# Altium footprint library ic.PcbLib: 7 footprints
Each footprint in its own frame and in the unit in brackets; x right, y up, seen from the top. Pads: shape width x height; smd on the part's side, far side on the other; paste and mask are expansions set on the pad; w line width, h text height; cw(c..) or ccw(c..) is an arc to the next point about the centre after c.
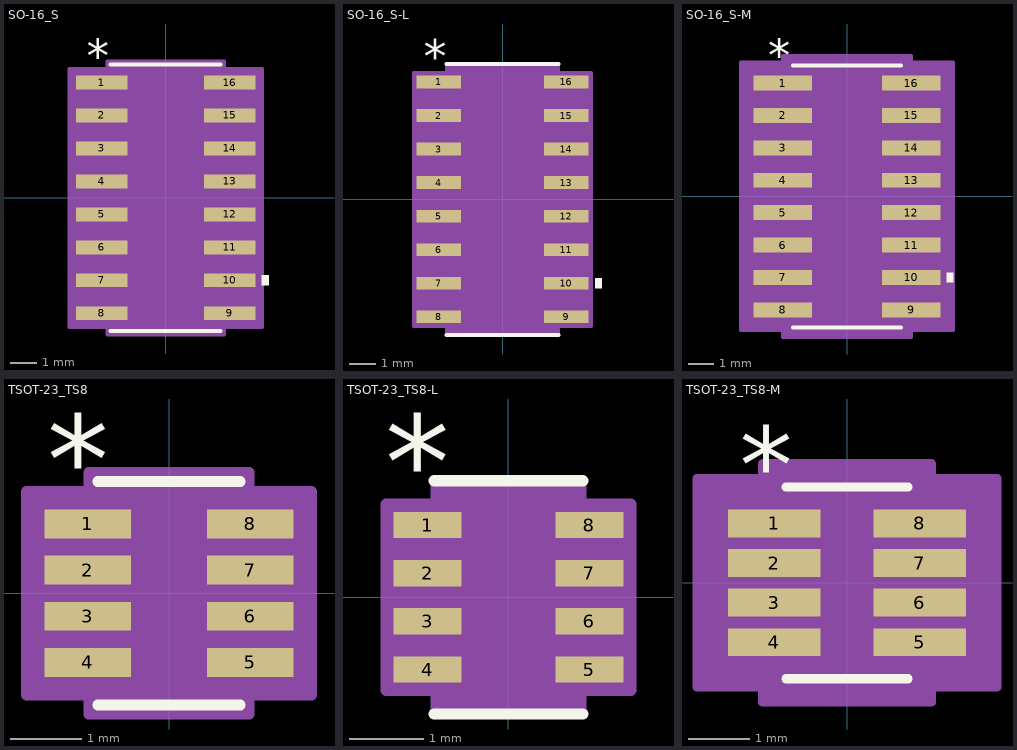
[diagram p0: the footprints below, top view; thin cyan lines are the x and y axes]

## PCBComponent_1 [mil]

## SO-16_S [mil]
pads (16):
  rect 78x21 smd paste+0 mask+0: 1(-97,175) 2(-97,125) 3(-97,75) 4(-97,25) 5(-97,-25) 6(-97,-75) 7(-97,-125) 8(-97,-175) 9(97,-175) 10(97,-125) 11(97,-75) 12(97,-25) 13(97,25) 14(97,75) 15(97,125) 16(97,175)
Top Overlay:
  region: 146,-117.5 156,-117.5 156,-132.5 146,-132.5
  lines w6: -83.5,-202 83.5,-202 ; -83.5,202 83.5,202
  text "*" at -119.5,191 h50
Mechanical 13:
  lines w0: -12,197 ccw(c0,197) 12,197
  lines w1: -122,-184.5 -78.5,-184.5 -78.5,-165.5 -122,-165.5 -122,-184.5 ; -122,-134.5 -78.5,-134.5 -78.5,-115.5 -122,-115.5 -122,-134.5 ; -122,-84.5 -78.5,-84.5 -78.5,-65.5 -122,-65.5 -122,-84.5 ; -122,-34.5 -78.5,-34.5 -78.5,-15.5 -122,-15.5 -122,-34.5 ; -122,15.5 -78.5,15.5 -78.5,34.5 -122,34.5 -122,15.5 ; -122,65.5 -78.5,65.5 -78.5,84.5 -122,84.5 -122,65.5 ; -122,115.5 -78.5,115.5 -78.5,134.5 -122,134.5 -122,115.5 ; -122,165.5 -78.5,165.5 -78.5,184.5 -122,184.5 -122,165.5 ; -78.5,-197 -78.5,197 78.5,197 78.5,-197 -78.5,-197 ; 78.5,-184.5 122,-184.5 122,-165.5 78.5,-165.5 78.5,-184.5 ; 78.5,-134.5 122,-134.5 122,-115.5 78.5,-115.5 78.5,-134.5 ; 78.5,-84.5 122,-84.5 122,-65.5 78.5,-65.5 78.5,-84.5 ; 78.5,-34.5 122,-34.5 122,-15.5 78.5,-15.5 78.5,-34.5 ; 78.5,15.5 122,15.5 122,34.5 78.5,34.5 78.5,15.5 ; 78.5,65.5 122,65.5 122,84.5 78.5,84.5 78.5,65.5 ; 78.5,115.5 122,115.5 122,134.5 78.5,134.5 78.5,115.5 ; 78.5,165.5 122,165.5 122,184.5 78.5,184.5 78.5,165.5
  text "*" at -76,144 h50
Mechanical 15:
  region: -88.5,-195.5 -146,-195.5 -146,195.5 -88.5,195.5 -88.5,207 88.5,207 88.5,195.5 146,195.5 146,-195.5 88.5,-195.5 88.5,-207 -88.5,-207
  lines w6: -146,-195.5 -88.5,-195.5 -88.5,-207 88.5,-207 88.5,-195.5 146,-195.5 146,195.5 88.5,195.5 88.5,207 -88.5,207 -88.5,195.5 -146,195.5 -146,-195.5
3D body: height 10, standoff 0, extent 0,0 10,10

## SO-16_S-L [mil]
pads (16):
  rect 66x19 smd paste+0 mask+0: 1(-95,175) 2(-95,125) 3(-95,75) 4(-95,25) 5(-95,-25) 6(-95,-75) 7(-95,-125) 8(-95,-175) 9(95,-175) 10(95,-125) 11(95,-75) 12(95,-25) 13(95,25) 14(95,75) 15(95,125) 16(95,175)
Top Overlay:
  region: 138,-117.5 148,-117.5 148,-132.5 138,-132.5
  lines w6: -83.5,-202 83.5,-202 ; -83.5,202 83.5,202
  text "*" at -117.5,189 h50
Mechanical 13:
  lines w0: -12,197 ccw(c0,197) 12,197
  lines w1: -122,-184.5 -78.5,-184.5 -78.5,-165.5 -122,-165.5 -122,-184.5 ; -122,-134.5 -78.5,-134.5 -78.5,-115.5 -122,-115.5 -122,-134.5 ; -122,-84.5 -78.5,-84.5 -78.5,-65.5 -122,-65.5 -122,-84.5 ; -122,-34.5 -78.5,-34.5 -78.5,-15.5 -122,-15.5 -122,-34.5 ; -122,15.5 -78.5,15.5 -78.5,34.5 -122,34.5 -122,15.5 ; -122,65.5 -78.5,65.5 -78.5,84.5 -122,84.5 -122,65.5 ; -122,115.5 -78.5,115.5 -78.5,134.5 -122,134.5 -122,115.5 ; -122,165.5 -78.5,165.5 -78.5,184.5 -122,184.5 -122,165.5 ; -78.5,-197 -78.5,197 78.5,197 78.5,-197 -78.5,-197 ; 78.5,-184.5 122,-184.5 122,-165.5 78.5,-165.5 78.5,-184.5 ; 78.5,-134.5 122,-134.5 122,-115.5 78.5,-115.5 78.5,-134.5 ; 78.5,-84.5 122,-84.5 122,-65.5 78.5,-65.5 78.5,-84.5 ; 78.5,-34.5 122,-34.5 122,-15.5 78.5,-15.5 78.5,-34.5 ; 78.5,15.5 122,15.5 122,34.5 78.5,34.5 78.5,15.5 ; 78.5,65.5 122,65.5 122,84.5 78.5,84.5 78.5,65.5 ; 78.5,115.5 122,115.5 122,134.5 78.5,134.5 78.5,115.5 ; 78.5,165.5 122,165.5 122,184.5 78.5,184.5 78.5,165.5
  text "*" at -76,144 h50
Mechanical 15:
  region: -82.5,-188.5 -132,-188.5 -132,188.5 -82.5,188.5 -82.5,201 82.5,201 82.5,188.5 132,188.5 132,-188.5 82.5,-188.5 82.5,-201 -82.5,-201
  lines w6: -132,-188.5 -82.5,-188.5 -82.5,-201 82.5,-201 82.5,-188.5 132,-188.5 132,188.5 82.5,188.5 82.5,201 -82.5,201 -82.5,188.5 -132,188.5 -132,-188.5
3D body: height 10, standoff 0, extent 0,0 10,10

## SO-16_S-M [mil]
pads (16):
  rect 90x23 smd paste+0 mask+0: 1(-99,175) 2(-99,125) 3(-99,75) 4(-99,25) 5(-99,-25) 6(-99,-75) 7(-99,-125) 8(-99,-175) 9(99,-175) 10(99,-125) 11(99,-75) 12(99,-25) 13(99,25) 14(99,75) 15(99,125) 16(99,175)
Top Overlay:
  region: 154,-117.5 164,-117.5 164,-132.5 154,-132.5
  lines w6: -83.5,-202 83.5,-202 ; -83.5,202 83.5,202
  text "*" at -121.5,193 h50
Mechanical 13:
  lines w0: -12,197 ccw(c0,197) 12,197
  lines w1: -122,-184.5 -122,-165.5 -78.5,-165.5 -78.5,-184.5 -122,-184.5 ; -122,-134.5 -122,-115.5 -78.5,-115.5 -78.5,-134.5 -122,-134.5 ; -122,-84.5 -122,-65.5 -78.5,-65.5 -78.5,-84.5 -122,-84.5 ; -122,-34.5 -122,-15.5 -78.5,-15.5 -78.5,-34.5 -122,-34.5 ; -122,15.5 -122,34.5 -78.5,34.5 -78.5,15.5 -122,15.5 ; -122,65.5 -122,84.5 -78.5,84.5 -78.5,65.5 -122,65.5 ; -122,115.5 -122,134.5 -78.5,134.5 -78.5,115.5 -122,115.5 ; -122,165.5 -122,184.5 -78.5,184.5 -78.5,165.5 -122,165.5 ; -78.5,-197 78.5,-197 78.5,197 -78.5,197 -78.5,-197 ; 78.5,-184.5 78.5,-165.5 122,-165.5 122,-184.5 78.5,-184.5 ; 78.5,-134.5 78.5,-115.5 122,-115.5 122,-134.5 78.5,-134.5 ; 78.5,-84.5 78.5,-65.5 122,-65.5 122,-84.5 78.5,-84.5 ; 78.5,-34.5 78.5,-15.5 122,-15.5 122,-34.5 78.5,-34.5 ; 78.5,15.5 78.5,34.5 122,34.5 122,15.5 78.5,15.5 ; 78.5,65.5 78.5,84.5 122,84.5 122,65.5 78.5,65.5 ; 78.5,115.5 78.5,134.5 122,134.5 122,115.5 78.5,115.5 ; 78.5,165.5 78.5,184.5 122,184.5 122,165.5 78.5,165.5
  text "*" at -76,144 h50
Mechanical 15:
  region: -98.5,-206.5 -164,-206.5 -164,206.5 -98.5,206.5 -98.5,217 98.5,217 98.5,206.5 164,206.5 164,-206.5 98.5,-206.5 98.5,-217 -98.5,-217
  lines w6: -164,-206.5 -164,206.5 -98.5,206.5 -98.5,217 98.5,217 98.5,206.5 164,206.5 164,-206.5 98.5,-206.5 98.5,-217 -98.5,-217 -98.5,-206.5 -164,-206.5
3D body: height 10, standoff 0, extent 0,0 10,10

## TSOT-23_TS8 [mil]
pads (8):
  rect 48x16 smd paste+0 mask+0: 1(-45,38.39) 2(-45,12.8) 3(-45,-12.8) 4(-45,-38.39) 5(45,-38.39) 6(45,-12.8) 7(45,12.8) 8(45,38.39)
Top Overlay:
  lines w6: -39.5,-62 39.5,-62 ; -39.5,62 39.5,62
  text "*" at -67.5,49.39 h50
Mechanical 13:
  lines w0: -12,57 ccw(c0,57) 12,57
  lines w1: -55,-45.39 -55,-31.39 -34.5,-31.39 -34.5,-45.39 -55,-45.39 ; -55,-19.8 -55,-5.8 -34.5,-5.8 -34.5,-19.8 -55,-19.8 ; -55,5.8 -55,19.8 -34.5,19.8 -34.5,5.8 -55,5.8 ; -55,31.39 -55,45.39 -34.5,45.39 -34.5,31.39 -55,31.39 ; -34.5,-57 34.5,-57 34.5,57 -34.5,57 -34.5,-57 ; 34.5,-45.39 34.5,-31.39 55,-31.39 55,-45.39 34.5,-45.39 ; 34.5,-19.8 34.5,-5.8 55,-5.8 55,-19.8 34.5,-19.8 ; 34.5,5.8 34.5,19.8 55,19.8 55,5.8 34.5,5.8 ; 34.5,31.39 34.5,45.39 55,45.39 55,31.39 34.5,31.39
  text "*" at -32,4 h50
Mechanical 15:
  region: -44.5,-56.39 -79,-56.39 -79,56.39 -44.5,56.39 -44.5,67 44.5,67 44.5,56.39 79,56.39 79,-56.39 44.5,-56.39 44.5,-67 -44.5,-67
  lines w6: -79,-56.39 -79,56.39 -44.5,56.39 -44.5,67 44.5,67 44.5,56.39 79,56.39 79,-56.39 44.5,-56.39 44.5,-67 -44.5,-67 -44.5,-56.39 -79,-56.39
3D body: height 10, standoff 0, extent 0,0 10,10

## TSOT-23_TS8-L [mil]
pads (8):
  rect 36x14 smd paste+0 mask+0: 1(-43,38.39) 2(-43,12.8) 3(-43,-12.8) 4(-43,-38.39) 5(43,-38.39) 6(43,-12.8) 7(43,12.8) 8(43,38.39)
Top Overlay:
  lines w6: -39.5,-62 39.5,-62 ; -39.5,62 39.5,62
  text "*" at -65.5,47.39 h50
Mechanical 13:
  lines w0: -12,57 ccw(c0,57) 12,57
  lines w1: -55,-45.39 -55,-31.39 -34.5,-31.39 -34.5,-45.39 -55,-45.39 ; -55,-19.8 -55,-5.8 -34.5,-5.8 -34.5,-19.8 -55,-19.8 ; -55,5.8 -55,19.8 -34.5,19.8 -34.5,5.8 -55,5.8 ; -55,31.39 -55,45.39 -34.5,45.39 -34.5,31.39 -55,31.39 ; -34.5,-57 34.5,-57 34.5,57 -34.5,57 -34.5,-57 ; 34.5,-45.39 34.5,-31.39 55,-31.39 55,-45.39 34.5,-45.39 ; 34.5,-19.8 34.5,-5.8 55,-5.8 55,-19.8 34.5,-19.8 ; 34.5,5.8 34.5,19.8 55,19.8 55,5.8 34.5,5.8 ; 34.5,31.39 34.5,45.39 55,45.39 55,31.39 34.5,31.39
  text "*" at -32,4 h50
Mechanical 15:
  region: -38.5,-49.39 -65,-49.39 -65,49.39 -38.5,49.39 -38.5,61 38.5,61 38.5,49.39 65,49.39 65,-49.39 38.5,-49.39 38.5,-61 -38.5,-61
  lines w6: -65,-49.39 -65,49.39 -38.5,49.39 -38.5,61 38.5,61 38.5,49.39 65,49.39 65,-49.39 38.5,-49.39 38.5,-61 -38.5,-61 -38.5,-49.39 -65,-49.39
3D body: height 10, standoff 0, extent 0,0 10,10

## TSOT-23_TS8-M [mil]
pads (8):
  rect 60x18 smd paste+0 mask+0: 1(-47,38.39) 2(-47,12.8) 3(-47,-12.8) 4(-47,-38.39) 5(47,-38.39) 6(47,-12.8) 7(47,12.8) 8(47,38.39)
Top Overlay:
  lines w6: -39.5,-62 39.5,-62 ; -39.5,62 39.5,62
  text "*" at -69.5,51.39 h50
Mechanical 13:
  lines w0: -12,57 ccw(c0,57) 12,57
  lines w1: -55,-45.39 -55,-31.39 -34.5,-31.39 -34.5,-45.39 -55,-45.39 ; -55,-19.8 -55,-5.8 -34.5,-5.8 -34.5,-19.8 -55,-19.8 ; -55,5.8 -55,19.8 -34.5,19.8 -34.5,5.8 -55,5.8 ; -55,31.39 -55,45.39 -34.5,45.39 -34.5,31.39 -55,31.39 ; -34.5,-57 34.5,-57 34.5,57 -34.5,57 -34.5,-57 ; 34.5,-45.39 34.5,-31.39 55,-31.39 55,-45.39 34.5,-45.39 ; 34.5,-19.8 34.5,-5.8 55,-5.8 55,-19.8 34.5,-19.8 ; 34.5,5.8 34.5,19.8 55,19.8 55,5.8 34.5,5.8 ; 34.5,31.39 34.5,45.39 55,45.39 55,31.39 34.5,31.39
  text "*" at -32,4 h50
Mechanical 15:
  region: -54.5,-67.39 -97,-67.39 -97,67.39 -54.5,67.39 -54.5,77 54.5,77 54.5,67.39 97,67.39 97,-67.39 54.5,-67.39 54.5,-77 -54.5,-77
  lines w6: -97,-67.39 -97,67.39 -54.5,67.39 -54.5,77 54.5,77 54.5,67.39 97,67.39 97,-67.39 54.5,-67.39 54.5,-77 -54.5,-77 -54.5,-67.39 -97,-67.39
3D body: height 10, standoff 0, extent 0,0 10,10